# EAGLE library part MMATCH-6-* (library jt-con-micromatch)
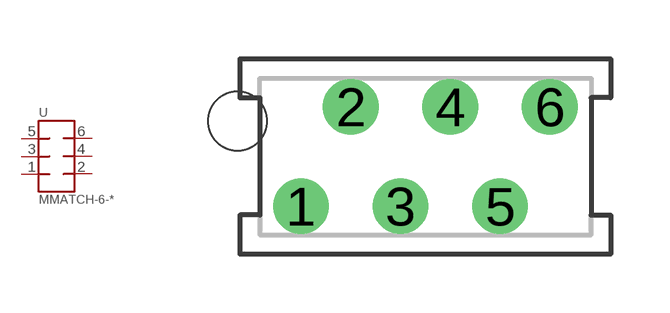
[diagram p8: symbol with the pads of AMP-215079-6; footprint AMP-215079-6]

Designator prefix -

## MMATCH-6-  [AMP-215079-6]
1  3
2  4
3  5
4  6
5  7
6  8

## Footprint AMP-215079-6 (pad centres in mm)
drill 0.8 pad 1.422: 1 0,0; 2 1.27,2.54; 3 2.54,0; 4 3.81,2.54; 5 5.08,0; 6 6.35,2.54
hole 1.5 at -1.62,2.175